# EAGLE library part 10-89-7102 (library Parts)
Molex C-GRID 70280, 2.54mm Pitch, 10 Way, 2 Row Unshrouded, Straight Pin Header, Through Hole, Solder Termination Source: Datasheet <https://www.molex.com/pdm_docs/sd/010897102_sd.pdf>
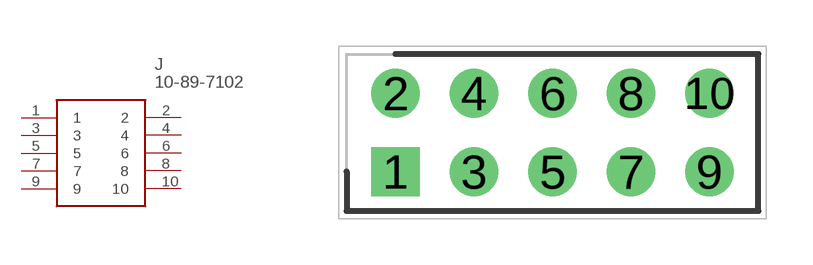
[diagram p1: symbol with the pads of HDRV10W87P254_2X5_1283X508X864; footprint HDRV10W87P254_2X5_1283X508X864]

Designator prefix J

## 10-89-7102 (DESCRIPTION: Molex C-GRID 70280, 2.54mm Pitch, 10 Way, 2 Row Unshrouded, Straight Pin Header, Through Hole, Solder Termination; HEIGHT: 8.64mm; MANUFACTURER_NAME: Molex; MANUFACTURER_PART_NUMBER: 10-89-7102; MOUSER_PART_NUMBER: 538-10-89-7102; MOUSER_PRICE-STOCK: https://www.mouser.co.uk/ProductDetail/Molex/10-89-7102?qs=tYx%252BZc2nXqq%252BOaFMPwxtyA%3D%3D)  [HDRV10W87P254_2X5_1283X508X864]
1  1
2  2
3  3
4  4
5  5
6  6
7  7
8  8
9  9
10  10

## Footprint HDRV10W87P254_2X5_1283X508X864 (pad centres in mm)
10-89-7102
drill 1.05 pad 1.575 square: 1 0,0
drill 1.05 pad 1.575: 2 0,2.54; 3 2.54,0; 4 2.54,2.54; 5 5.08,0; 6 5.08,2.54; 7 7.62,0; 8 7.62,2.54; 9 10.16,0; 10 10.16,2.54